# Altium footprint library 7461090.PcbLib: 1 footprints
Each footprint in its own frame and in the unit in brackets; x right, y up, seen from the top. Pads: shape width x height; smd on the part's side, far side on the other; paste and mask are expansions set on the pad; w line width, h text height; cw(c..) or ccw(c..) is an arc to the next point about the centre after c.
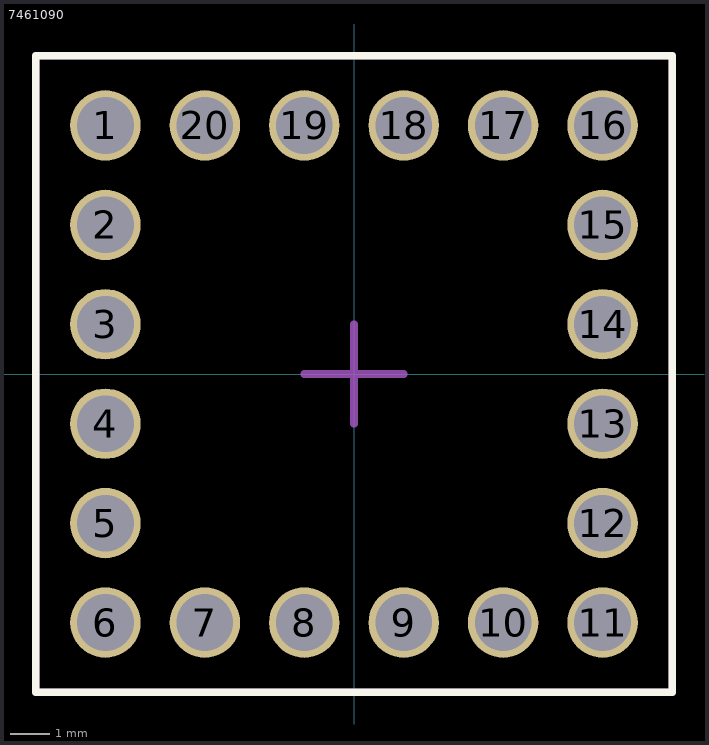
[diagram p0: the footprint, top view; thin cyan lines are the x and y axes]

## 7461090 [mm]
pads (20):
  round 1.8 hole 1.45 paste-2539.97 mask+0: 1(-6.35,6.35) 2(-6.35,3.81) 3(-6.35,1.27) 4(-6.35,-1.27) 5(-6.35,-3.81) 6(-6.35,-6.35) 7(-3.81,-6.35) 8(-1.27,-6.35) 9(1.27,-6.35) 10(3.81,-6.35) 11(6.35,-6.35) 12(6.35,-3.81) 13(6.35,-1.27) 14(6.35,1.27) 15(6.35,3.81) 16(6.35,6.35) 17(3.81,6.35) 18(1.27,6.35) 19(-1.27,6.35) 20(-3.81,6.35)
Top Overlay:
  lines w0.2: -8.128,-8.128 -8.128,8.128 8.128,8.128 8.128,-8.128 -8.128,-8.128
Top Designator:
  text ".Designator" at -7.618,-0.508 h1.52
3D Body:
  lines w0.2: -8.128,-8.128 8.128,-8.128 8.128,8.128 -8.128,8.128 -8.128,-8.128
Center Cross:
  lines w0.2: -1.27,0 0,0 ; 0,-1.27 0,0 ; 0,1.27 0,0 ; 1.27,0 0,0
3D body "7461090.stp": height 13.5, standoff -3.5, extent -8,-8 8,8